# Altium footprint library HDC1105WTR.PcbLib: 1 footprints
Each footprint in its own frame and in the unit in brackets; x right, y up, seen from the top. Pads: shape width x height; smd on the part's side, far side on the other; paste and mask are expansions set on the pad; w line width, h text height; cw(c..) or ccw(c..) is an arc to the next point about the centre after c.
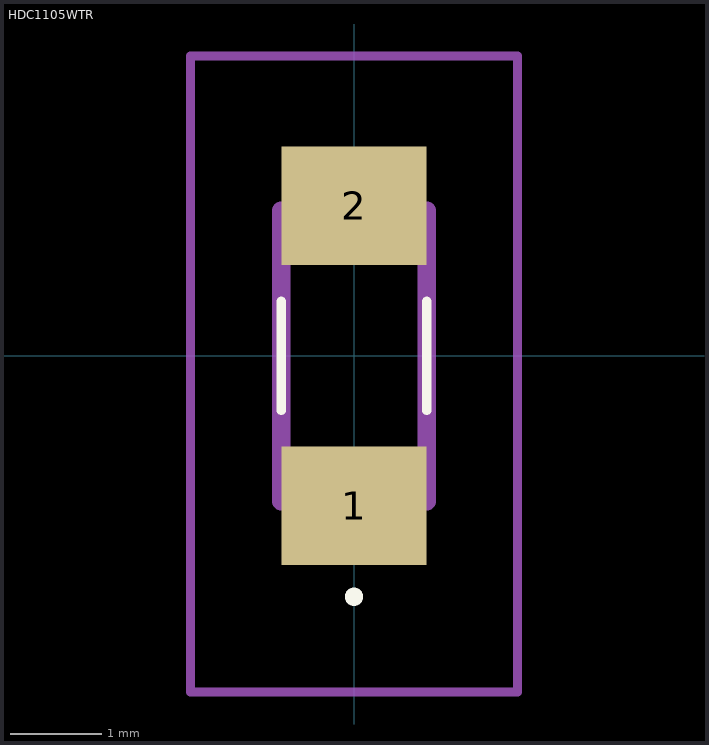
[diagram p0: the footprint, top view; thin cyan lines are the x and y axes]

## HDC1105WTR [mm]
pads (2):
  rect 1.6x1.3 smd: 1(0,-1.65) 2(0,1.65)
Top Overlay:
  lines w0.1: -0.8,-0.6 -0.8,0.6 ; 0.8,-0.6 0.8,0.6 ; 0,-2.7 cw(c0,-2.65) 0,-2.6 ; 0,-2.7 0,-2.7 ; 0,-2.7 ccw(c0,-2.65) 0,-2.6 ; 0,-2.6 0,-2.6
Mechanical 15:
  lines w0.2: -0.8,-1.6 0.8,-1.6 0.8,1.6 -0.8,1.6 -0.8,-1.6
Mechanical 20:
  lines w0.1: -1.8,-3.7 1.8,-3.7 1.8,3.3 -1.8,3.3 -1.8,-3.7